# Altium footprint library 61G-20200406.PcbLib: 24 footprints (part 1 of 2)
Each footprint in its own frame and in the unit in brackets; x right, y up, seen from the top. Pads: shape width x height; smd on the part's side, far side on the other; paste and mask are expansions set on the pad; w line width, h text height; cw(c..) or ccw(c..) is an arc to the next point about the centre after c.
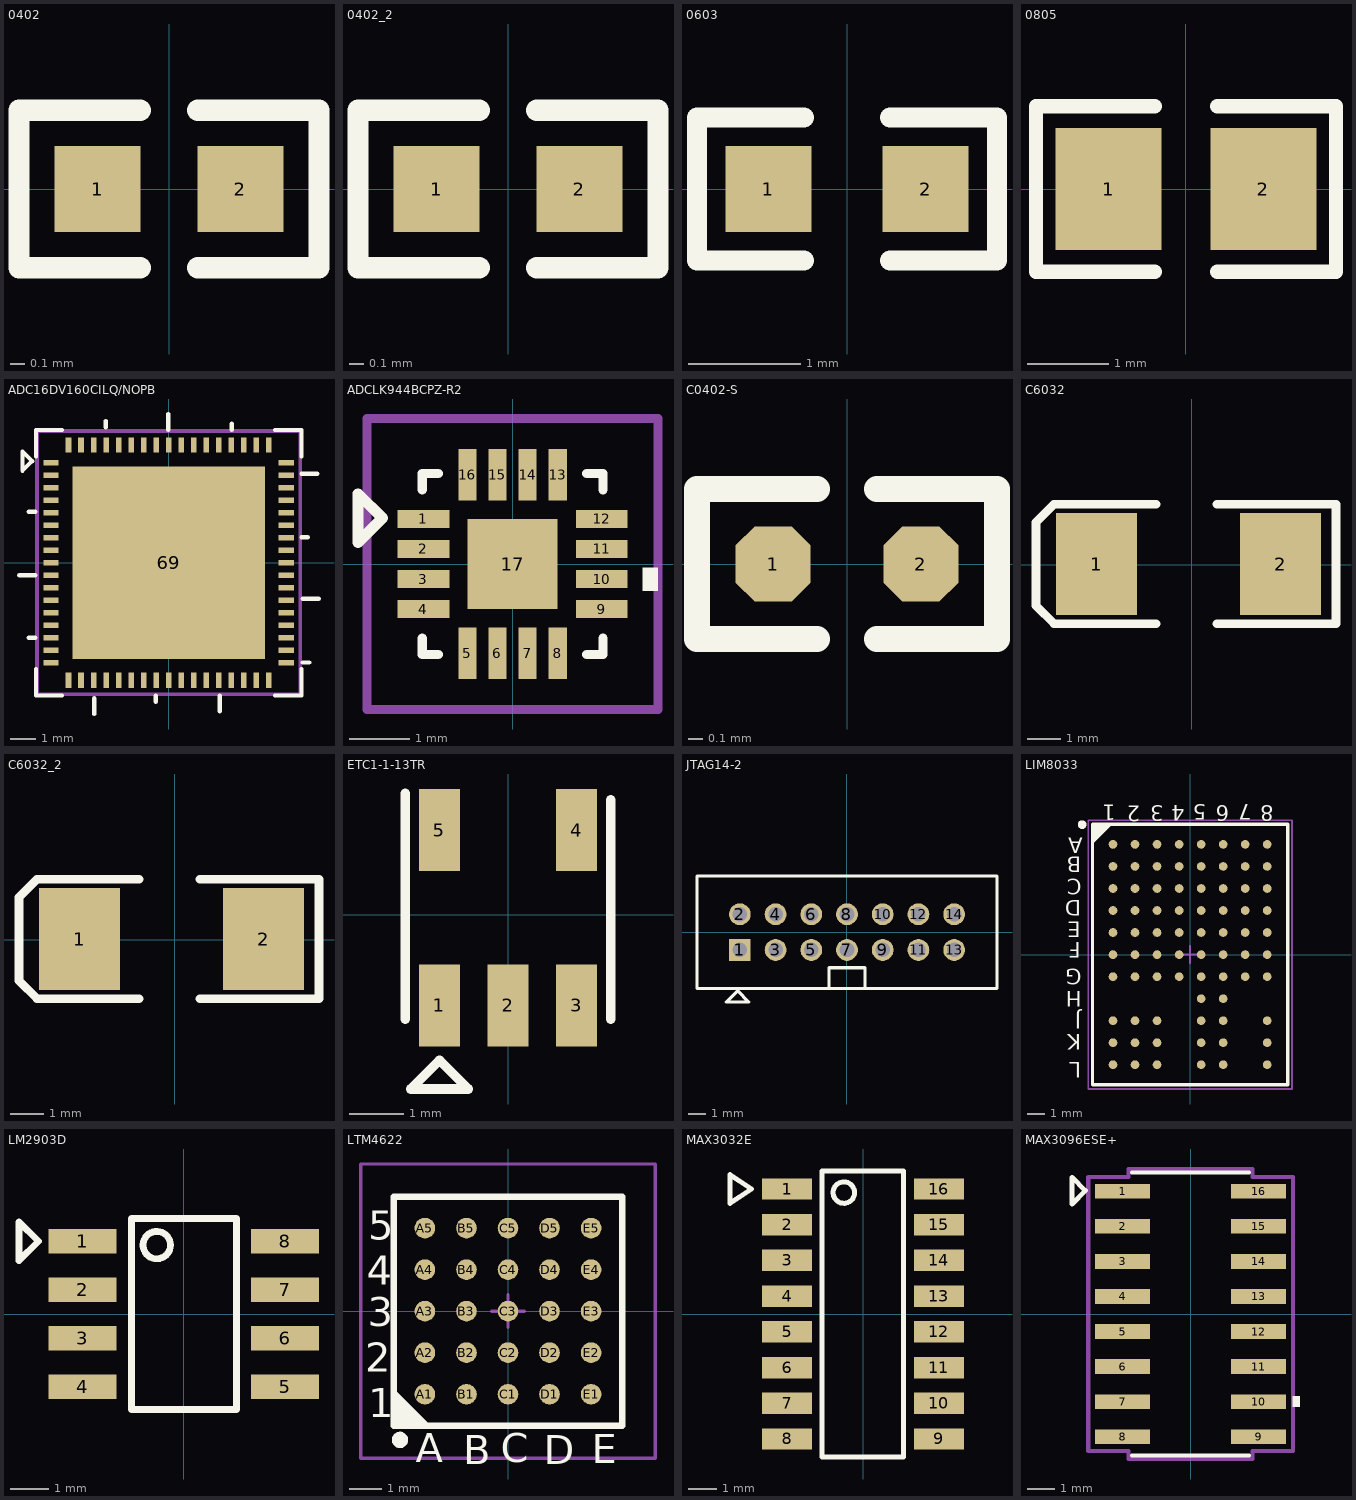
[diagram p0: the footprints below, top view; thin cyan lines are the x and y axes]

## 0402 [mm]
pads (2):
  rect 0.6x0.6 smd: 1(-0.5,0) 2(0.5,0)
Top Overlay:
  lines w0.15: -0.2,-0.55 -1.05,-0.55 -1.05,0.55 -0.2,0.55 ; 0.2,-0.55 1.05,-0.55 1.05,0.55 0.2,0.55

## 0402_2 [mm]
pads (2):
  rect 0.6x0.6 smd: 1(-0.5,0) 2(0.5,0)
Top Overlay:
  lines w0.15: -0.2,-0.55 -1.05,-0.55 -1.05,0.55 -0.2,0.55 ; 0.2,-0.55 1.05,-0.55 1.05,0.55 0.2,0.55

## 0603 [mil]
pads (2):
  rect 30x30 smd: 1(-27.5,0) 2(27.5,0)
Top Overlay:
  lines w7: -15,-25 -52.5,-25 -52.5,25 -15,25 ; 15,-25 52.5,-25 52.5,25 15,25

## 0805 [mm]
pads (2):
  rect 1.3x1.5 smd: 1(-0.95,0) 2(0.95,0)
Top Overlay:
  lines w0.178: -0.381,-1.019 -1.841,-1.019 -1.841,1.019 -0.381,1.019 ; 0.381,-1.019 1.842,-1.019 1.842,1.019 0.381,1.019

## ADC16DV160CILQ/NOPB [mil]
pads (69):
  rect 24x9 smd paste-4.5: 1(-185.04,157.48) 2(-185.04,137.8) 3(-185.04,118.11) 4(-185.04,98.43) 5(-185.04,78.74) 6(-185.04,59.06) 7(-185.04,39.37) 8(-185.04,19.69) 9(-185.04,0) 10(-185.04,-19.68) 11(-185.04,-39.37) 12(-185.04,-59.05) 13(-185.04,-78.74) 14(-185.04,-98.42) 15(-185.04,-118.11) 16(-185.04,-137.79) 17(-185.04,-157.48) 35(185.04,-157.48) 36(185.04,-137.79) 37(185.04,-118.11) 38(185.04,-98.42) 39(185.04,-78.74) 40(185.04,-59.05) 41(185.04,-39.37) 42(185.04,-19.68) 43(185.04,0) 44(185.04,19.69) 45(185.04,39.37) 46(185.04,59.06) 47(185.04,78.74) 48(185.04,98.43) 49(185.04,118.11) 50(185.04,137.8) 51(185.04,157.48)
  rect 9x24 smd paste-4.5: 18(-157.48,-185.04) 19(-137.79,-185.04) 20(-118.11,-185.04) 21(-98.42,-185.04) 22(-78.74,-185.04) 23(-59.05,-185.04) 24(-39.37,-185.04) 25(-19.68,-185.04) 26(0,-185.04) 27(19.69,-185.04) 28(39.37,-185.04) 29(59.06,-185.04) 30(78.74,-185.04) 31(98.43,-185.04) 32(118.11,-185.04) 33(137.8,-185.04) 34(157.48,-185.04) 52(157.48,185.04) 53(137.8,185.04) 54(118.11,185.04) 55(98.43,185.04) 56(78.74,185.04) 57(59.06,185.04) 58(39.37,185.04) 59(19.69,185.04) 60(0,185.04) 61(-19.68,185.04) 62(-39.37,185.04) 63(-59.05,185.04) 64(-78.74,185.04) 65(-98.42,185.04) 66(-118.11,185.04) 67(-137.79,185.04) 68(-157.48,185.04)
  rect 303x303 smd paste-151.5: 69(0,0)
Top Overlay:
  lines w6: -209,-167.32 -209,-209 -167.32,-209 ; -209,167.33 -209,209 -167.32,209 ; 167.33,-209 209,-209 209,-167.32 ; 167.33,209 209,209 209,167.33
  lines w7: -235,-20 -210,-20 ; -220,-118 -210,-118 ; -220,80 -210,80 ; -117,-238 -117,-213 ; -99,213 -99,223 ; -20,-219 -20,-209 ; -1,209 -1,234 ; 80,-234 80,-209 ; 99,209 99,219 ; 209,40 219,40 ; 209,140 234,140 ; 211,-157 221,-157 ; 211,-57 236,-57 ; -230,145 -215,160 -230,175 -230,145
Top Paste:
  drawing of 93 lines, arcs and shapes, not listed
Mechanical 15:
  lines w6: -207.04,-207.04 -207.04,207.04 207.04,207.04 207.04,-207.04 -207.04,-207.04
3D body "LQA68A.stp": height 37.1, standoff 0, extent -201,-201 201,201

## ADCLK944BCPZ-R2 [mm]
pads (17):
  rect 0.856x0.3 smd: 1(-1.478,0.75) 2(-1.478,0.25) 3(-1.478,-0.25) 4(-1.478,-0.75) 9(1.478,-0.75) 10(1.478,-0.25) 11(1.478,0.25) 12(1.478,0.75)
  rect 0.3x0.856 smd: 5(-0.75,-1.478) 6(-0.25,-1.478) 7(0.25,-1.478) 8(0.75,-1.478) 13(0.75,1.478) 14(0.25,1.478) 15(-0.25,1.478) 16(-0.75,1.478)
  rect 1.5x1.5 smd mask-0.737: 17(0,0)
Top Overlay:
  region: 2.16,-0.059 2.414,-0.059 2.414,-0.44 2.16,-0.44
  lines w0.152: -1.5,-1.233 -1.5,-1.5 -1.233,-1.5 ; -1.5,1.233 -1.5,1.5 -1.233,1.5 ; 1.233,-1.5 1.5,-1.5 1.5,-1.233 ; 1.233,1.5 1.5,1.5 1.5,1.233
  lines w0.178: -2.565,0.356 -2.159,0.762 -2.565,1.168 -2.565,0.356
Mechanical 15:
  lines w0.152: -2.414,-2.414 -2.414,2.414 2.414,2.414 2.414,-2.414 -2.414,-2.414
3D body "CP_16_18.stp": height 0.79, standoff 0, extent -1.551,-1.551 1.551,1.551

## C0402-S [mil]
pads (2):
  oct 20x20 smd: 1(-19.68,0) 2(19.68,0)
Top Overlay:
  lines w7: -8,-20 -40,-20 -40,20 -8,20 ; 8,-20 40,-20 40,20 8,20

## C6032 [mil]
height 98.43
pads (2):
  rect 95x120 smd: 1(-112,1) 2(104,1)
Top Overlay:
  lines w10: -42,-69 -156,-69 -162,-69 -183,-48 -183,50 -163,70 -162,71 -42,71 ; 29,-69 169,-69 169,71 29,71
3D body "TAJ-C.STEP": height 102.36, standoff 0, extent -121.11,-61.99 115.11,63.99

## C6032_2 [mil]
pads (2):
  rect 95x120 smd: 1(-112,1) 2(104,1)
Top Overlay:
  lines w10: -42,-69 -156,-69 -162,-69 -183,-48 -183,50 -163,70 -162,71 -42,71 ; 29,-69 169,-69 169,71 29,71
3D body "TAJ-C.STEP": height 102.36, standoff 0, extent -121.11,-61.99 115.11,63.99

## ETC1-1-13TR [mil]
pads (5):
  rect 30x60 smd: 1(-50,-66) 2(0,-66) 3(50,-66) 4(50,61.95) 5(-50,61.95)
Top Overlay:
  lines w7: -75,-76 -75,-66 -75,-31 -75,29 -75,89 ; 75,-76 75,84 ; -71,-127 -29,-127 -50,-106 -71,-127

## JTAG14-2 [mil]
pads (14):
  rect 48x48 hole 32: 1(-236.22,-39.37)
  round 48 hole 32: 2(-236.22,39.37) 3(-157.48,-39.37) 4(-157.48,39.37) 5(-78.74,-39.37) 6(-78.74,39.37) 7(0,-39.37) 8(0,39.37) 9(78.74,-39.37) 10(78.74,39.37) 11(157.48,-39.37) 12(157.48,39.37) 13(236.22,-39.37) 14(236.22,39.37)
Top Overlay:
  lines w7: -39.37,-124.02 -39.37,-78.74 39.37,-78.74 39.37,-124.02 ; -330.71,-124.02 330.71,-124.02 330.71,124.02 -330.71,124.02 -330.71,-124.02 ; -266.22,-154.37 -241.22,-129.37 -216.22,-154.37 -266.22,-154.37

## LIM8033 [mm]
pads (76):
  round 0.5 smd: A1(-4.445,6.35) A2(-3.175,6.35) A3(-1.905,6.35) A4(-0.635,6.35) A5(0.635,6.35) A6(1.905,6.35) A7(3.175,6.35) A8(4.445,6.35) B1(-4.445,5.08) B2(-3.175,5.08) B3(-1.905,5.08) B4(-0.635,5.08) B5(0.635,5.08) B6(1.905,5.08) B7(3.175,5.08) B8(4.445,5.08) C1(-4.445,3.81) C2(-3.175,3.81) C3(-1.905,3.81) C4(-0.635,3.81) C5(0.635,3.81) C6(1.905,3.81) C7(3.175,3.81) C8(4.445,3.81) D1(-4.445,2.54) D2(-3.175,2.54) D3(-1.905,2.54) D4(-0.635,2.54) D5(0.635,2.54) D6(1.905,2.54) D7(3.175,2.54) D8(4.445,2.54) E1(-4.445,1.27) E2(-3.175,1.27) E3(-1.905,1.27) E4(-0.635,1.27) E5(0.635,1.27) E6(1.905,1.27) E7(3.175,1.27) E8(4.445,1.27) F1(-4.445,0) F2(-3.175,0) F3(-1.905,0) F4(-0.635,0) F5(0.635,0) F6(1.905,0) F7(3.175,0) F8(4.445,0) G1(-4.445,-1.27) G2(-3.175,-1.27) G3(-1.905,-1.27) G4(-0.635,-1.27) G5(0.635,-1.27) G6(1.905,-1.27) G7(3.175,-1.27) G8(4.445,-1.27) H5(0.635,-2.54) H6(1.905,-2.54) J1(-4.445,-3.81) J2(-3.175,-3.81) J3(-1.905,-3.81) J5(0.635,-3.81) J6(1.905,-3.81) J8(4.445,-3.81) K1(-4.445,-5.08) K2(-3.175,-5.08) K3(-1.905,-5.08) K5(0.635,-5.08) K6(1.905,-5.08) K8(4.445,-5.08) L1(-4.445,-6.35) L2(-3.175,-6.35) L3(-1.905,-6.35) L5(0.635,-6.35) L6(1.905,-6.35) L8(4.445,-6.35)
Top Overlay:
  circle w0.25: c-6.221,7.493 r0.125
  region: -4.625,7.5 -5.625,6.5 -5.625,7.5
  lines w0.2: -5.625,6.5 -4.625,7.5 ; -5.625,-7.5 -5.625,7.5 5.625,7.5 5.625,-7.5 -5.625,-7.5
  text "8" at 4.816,8.622 h0.89
  text "7" at 3.569,8.656 h0.89
  text "6" at 2.254,8.622 h0.89
  text "5" at 0.923,8.656 h0.89
  text "4" at -0.308,8.622 h0.89
  text "3" at -1.521,8.622 h0.89
  text "2" at -2.886,8.588 h0.89
  text "1" at -4.285,8.639 h0.89
  text "L" at -6.278,-6.196 h0.89
  text "K" at -6.278,-4.596 h0.89
  text "J" at -6.263,-3.387 h0.89
  text "H" at -6.231,-2.101 h0.89
  text "G" at -6.247,-0.814 h0.89
  text "F" at -6.31,0.708 h0.89
  text "E" at -6.31,1.9 h0.89
  text "D" at -6.278,3.14 h0.89
  text "C" at -6.231,4.364 h0.89
  text "B" at -6.263,5.635 h0.89
  text "A" at -6.184,6.733 h0.89
Mechanical 13:
  lines w0.1: -5.625,-7.5 -5.625,7.5 5.625,7.5 5.625,-7.5 -5.625,-7.5
Mechanical 15:
  lines w0.1: -0.5,0 0.5,0 ; 0,-0.5 0,0.5 ; -5.875,-7.75 -5.875,7.75 5.875,7.75 5.875,-7.75 -5.875,-7.75
3D body: height 4.92, standoff 0.6, extent -5.625,-7.5 5.625,7.5

## LM2903D [mm]
pads (8):
  rect 1.778x0.635 smd: 1(-2.65,1.905) 2(-2.65,0.635) 3(-2.65,-0.635) 4(-2.65,-1.905) 5(2.65,-1.905) 6(2.65,-0.635) 7(2.65,0.635) 8(2.65,1.905)
Top Overlay:
  circle w0.178: c-0.709,1.805 r0.359
  lines w0.178: -4.318,1.397 -4.318,2.413 -3.81,1.905 -4.318,1.397 ; -1.372,-2.5 1.377,-2.5 1.377,2.5 -1.372,2.5 -1.372,-2.5

## LTM4622 [mm]
pads (25):
  round 0.63 smd: A1(-2.54,-2.54) A2(-2.54,-1.27) A3(-2.54,0) A4(-2.54,1.27) A5(-2.54,2.54) B1(-1.27,-2.54) B2(-1.27,-1.27) B3(-1.27,0) B4(-1.27,1.27) B5(-1.27,2.54) C1(0,-2.54) C2(0,-1.27) C3(0,0) C4(0,1.27) C5(0,2.54) D1(1.27,-2.54) D2(1.27,-1.27) D3(1.27,0) D4(1.27,1.27) D5(1.27,2.54) E1(2.54,-2.54) E2(2.54,-1.27) E3(2.54,0) E4(2.54,1.27) E5(2.54,2.54)
Top Overlay:
  circle w0.25: c-3.302,-3.937 r0.125
  region: -3.5,-2.5 -2.5,-3.5 -3.5,-3.5
  lines w0.2: -3.5,-2.5 -2.5,-3.5 ; -3.5,-3.5 -3.5,3.5 3.5,3.5 3.5,-3.5 -3.5,-3.5
  text "A" at -2.819,-4.623 h0.89
  text "B" at -1.372,-4.674 h0.89
  text "C" at -0.229,-4.623 h0.89
  text "D" at 1.092,-4.674 h0.89
  text "E" at 2.565,-4.648 h0.89
  text "1" at -4.267,-3.251 h0.89
  text "2" at -4.369,-1.854 h0.89
  text "3" at -4.293,-0.457 h0.89
  text "4" at -4.318,0.813 h0.89
  text "5" at -4.267,2.184 h0.89
Mechanical 13:
  lines w0.1: -3.5,-3.5 -3.5,3.5 3.5,3.5 3.5,-3.5 -3.5,-3.5
Mechanical 15:
  lines w0.1: -0.5,0 0.5,0 ; 0,-0.5 0,0.5 ; -4.5,-4.5 -4.5,4.5 4.5,4.5 4.5,-4.5 -4.5,-4.5
3D body: height 1.55, standoff 0, extent -3.5,-3.5 3.5,3.5

## MAX3032E [mil]
pads (16):
  rect 70x30 smd: 1(-106.3,175) 2(-106.3,125) 3(-106.3,75) 4(-106.3,25) 5(-106.3,-25) 6(-106.3,-75) 7(-106.3,-125) 8(-106.3,-175) 9(106.3,-175) 10(106.3,-125) 11(106.3,-75) 12(106.3,-25) 13(106.3,25) 14(106.3,75) 15(106.3,125) 16(106.3,175)
Top Overlay:
  circle w7: c-26.97,170 r15
  lines w7: -186.3,155 -186.3,195 -156.3,175 -186.3,155 ; -57.3,-200 -57.3,200 56.55,200 56.55,-200 -57.3,-200

## MAX3096ESE+ [mil]
pads (16):
  rect 78x21 smd: 1(-97,175) 2(-97,125) 3(-97,75) 4(-97,25) 5(-97,-25) 6(-97,-75) 7(-97,-125) 8(-97,-175) 9(97,-175) 10(97,-125) 11(97,-75) 12(97,-25) 13(97,25) 14(97,75) 15(97,125) 16(97,175)
Top Overlay:
  region: 146,-117.5 156,-117.5 156,-132.5 146,-132.5
  lines w6: -83.5,-202 83.5,-202 ; -83.5,202 83.5,202
  lines w7: -169,157 -150,176 -169,195 -169,157
Mechanical 15:
  lines w6: -146,-195.5 -88.5,-195.5 -88.5,-207 88.5,-207 88.5,-195.5 146,-195.5 146,195.5 88.5,195.5 88.5,207 -88.5,207 -88.5,195.5 -146,195.5 -146,-195.5